# EAGLE library part C8051F381/3/5/7 (library silabs)
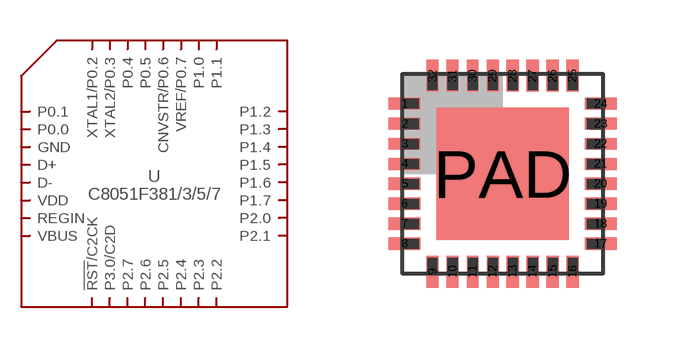
[diagram p7: symbol with the pads of QFN32; footprint QFN32]

Designator prefix U

## C8051F381/3/5/7.QFN  [QFN32]
1  P0.1
2  P0.0
3  GND
4  D+
5  D-
6  VDD
7  REGIN
8  VBUS
9  !RST!/C2CK
10  P3.0/C2D
11  P2.7
12  P2.6
13  P2.5
14  P2.4
15  P2.3
16  P2.2
17  P2.1
18  P2.0
19  P1.7
20  P1.6
21  P1.5
22  P1.4
23  P1.3
24  P1.2
25  P1.1
26  P1.0
27  VREF/P0.7
28  CNVSTR/P0.6
29  P0.5
30  P0.4
31  XTAL2/P0.3
32  XTAL1/P0.2
PAD  GND

## Footprint QFN32 (pad centres in mm)
smd 0.8 x 0.3: 1 -2.45,1.75; 2 -2.45,1.25; 3 -2.45,0.75; 4 -2.45,0.25; 5 -2.45,-0.25; 6 -2.45,-0.75; 7 -2.45,-1.25; 8 -2.45,-1.75; 17 2.45,-1.75; 18 2.45,-1.25; 19 2.45,-0.75; 20 2.45,-0.25; 21 2.45,0.25; 22 2.45,0.75; 23 2.45,1.25; 24 2.45,1.75
smd 0.3 x 0.8: 9 -1.75,-2.45; 10 -1.25,-2.45; 11 -0.75,-2.45; 12 -0.25,-2.45; 13 0.25,-2.45; 14 0.75,-2.45; 15 1.25,-2.45; 16 1.75,-2.45; 25 1.75,2.45; 26 1.25,2.45; 27 0.75,2.45; 28 0.25,2.45; 29 -0.25,2.45; 30 -0.75,2.45; 31 -1.25,2.45; 32 -1.75,2.45
smd 3.3 x 3.3: PAD 0,0